# Altium footprint library BLE-Control.PcbLib: 56 footprints (part 1 of 4)
Each footprint in its own frame and in the unit in brackets; x right, y up, seen from the top. Pads: shape width x height; smd on the part's side, far side on the other; paste and mask are expansions set on the pad; w line width, h text height; cw(c..) or ccw(c..) is an arc to the next point about the centre after c.
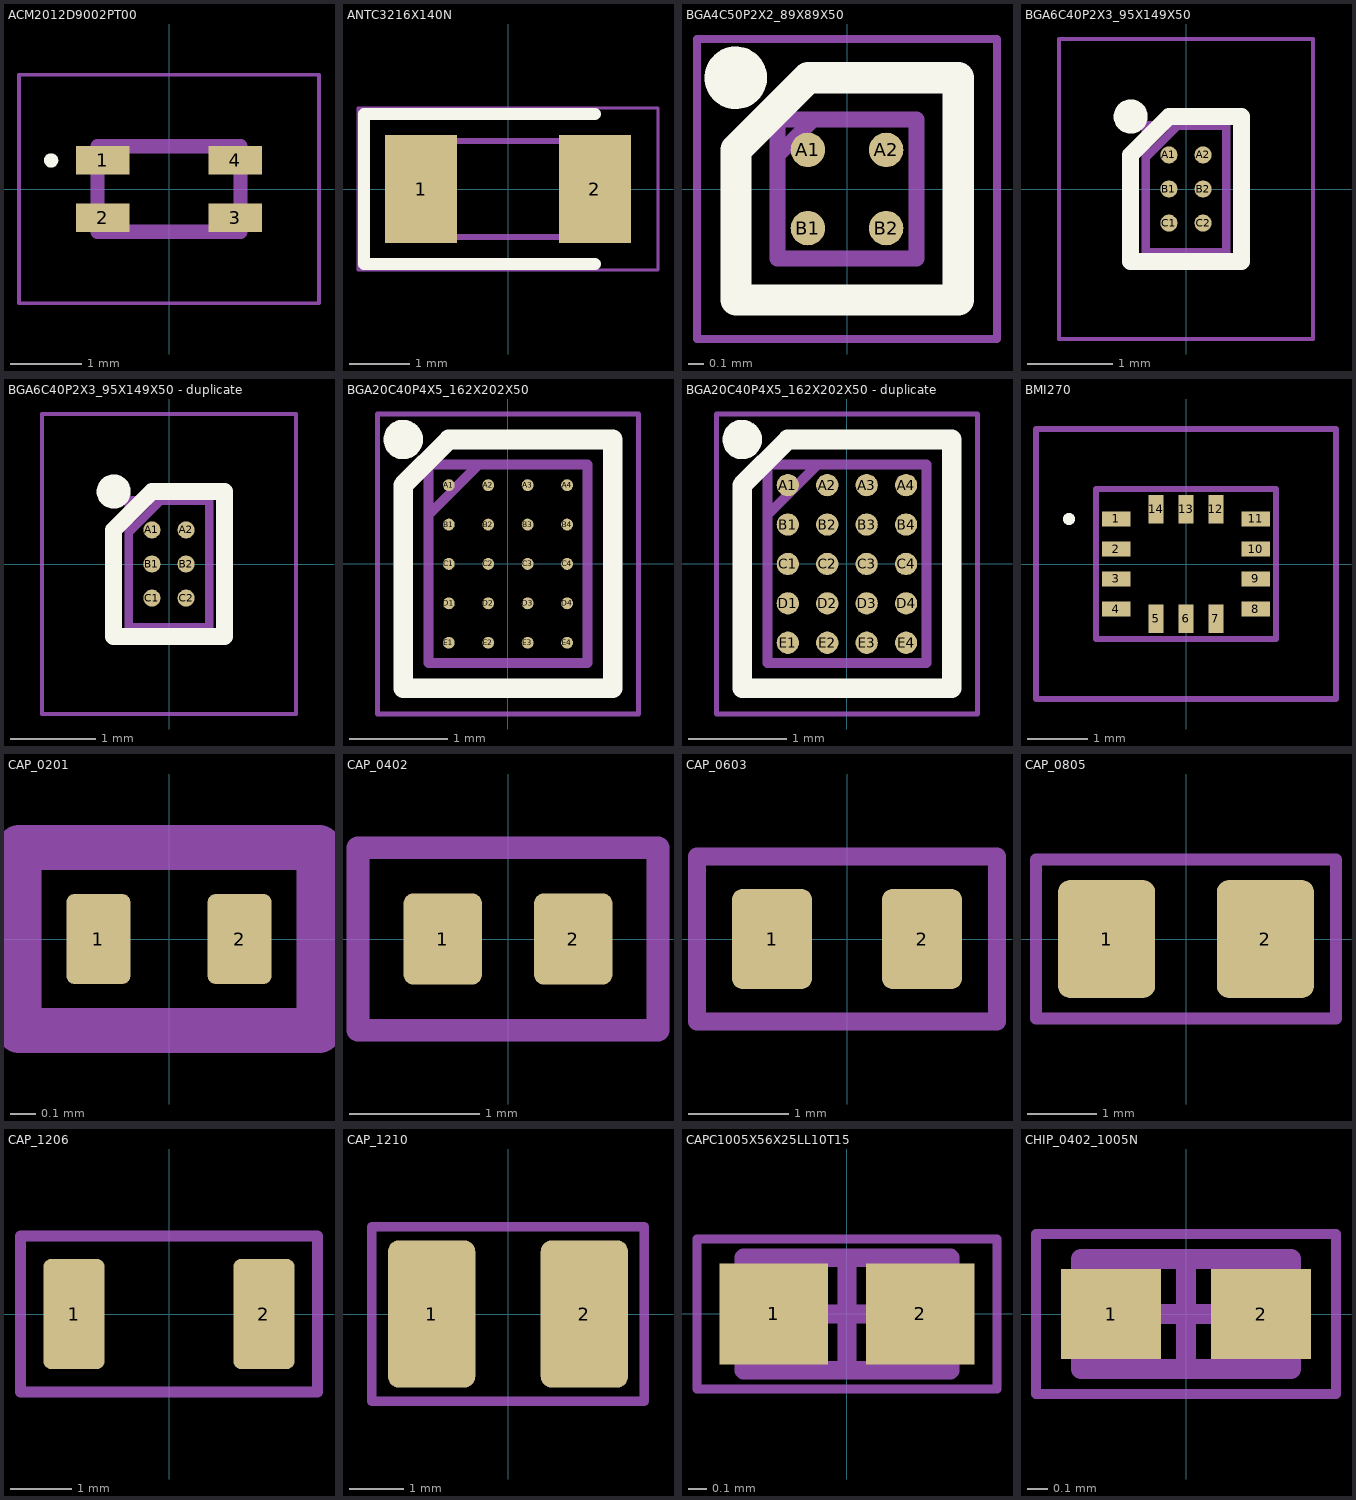
[diagram p0: the footprints below, top view; thin cyan lines are the x and y axes]

## ACM2012D9002PT00 [mm]
pads (4):
  rect 0.75x0.4 smd: 1(-0.925,0.4) 2(-0.925,-0.4) 3(0.925,-0.4) 4(0.925,0.4)
Top Overlay:
  lines w0.1: -1.7,0.4 ccw(c-1.65,0.4) -1.6,0.4 ccw(c-1.65,0.4) -1.7,0.4
Top 3D Body:
  lines w0.2: -1,-0.6 -1,0.6 1,0.6 1,-0.6 -1,-0.6
Top Courtyard:
  lines w0.05: -2.1,-1.6 -2.1,1.6 2.1,1.6 2.1,-1.6 -2.1,-1.6
3D body "ACM2012D-900-2P-T00.stp": height 1.2, standoff 0, extent -1.009,-0.602 0.991,0.598

## ANTC3216X140N [mm]
pads (2):
  rect 1.2x1.8 smd: 1(-1.45,0) 2(1.45,0)
Top Overlay:
  lines w0.2: 1.45,-1.25 -2.4,-1.25 -2.4,1.25 1.45,1.25
Top 3D Body:
  lines w0.1: -1.6,0.2 -1,0.8 ; -1.6,-0.8 -1.6,0.8 1.6,0.8 1.6,-0.8 -1.6,-0.8
Top Courtyard:
  lines w0.05: -2.5,-1.35 -2.5,1.35 2.5,1.35 2.5,-1.35 -2.5,-1.35
3D body "2450AT18A100E.stp": height 1.4, standoff 0, extent -1.6,-0.8 1.6,0.8

## BGA4C50P2X2_89X89X50 [mm]
pads (4):
  round 0.221 smd: A1(-0.25,0.25) A2(0.25,0.25) B1(-0.25,-0.25) B2(0.25,-0.25)
Top Overlay:
  circle w0.2: c-0.711,0.711 r0.1
  lines w0.2: -0.25,0.711 0.711,0.711 0.711,-0.71 -0.71,-0.71 -0.71,0.251 -0.249,0.712
Top 3D Body:
  lines w0.1: -0.444,0.214 -0.214,0.444 ; -0.444,-0.444 -0.444,0.444 0.444,0.444 0.444,-0.444 -0.444,-0.444
Top Courtyard:
  lines w0.05: -0.959,-0.959 -0.959,0.959 0.959,0.959 0.959,-0.959 -0.959,-0.959
3D body "TPS22910AYZVR.stp": height 0.5, standoff 0, extent -0.444,-0.444 0.444,0.444

## BGA6C40P2X3_95X149X50 [mm]
pads (6):
  round 0.2 smd: A1(-0.2,0.4) A2(0.2,0.4) B1(-0.2,0) B2(0.2,0) C1(-0.2,-0.4) C2(0.2,-0.4)
Top Overlay:
  circle w0.2: c-0.65,0.85 r0.1
  lines w0.2: -0.65,-0.85 0.65,-0.85 0.65,0.85 -0.2,0.85 -0.65,0.4 -0.65,-0.85
Top Courtyard:
  lines w0.1: -0.475,0.365 -0.095,0.745 ; -0.475,-0.745 0.475,-0.745 0.475,0.745 -0.475,0.745 -0.475,-0.745
Bottom Assembly:
  lines w0.05: -1.49,-1.76 1.49,-1.76 1.49,1.76 -1.49,1.76 -1.49,-1.76

## BGA6C40P2X3_95X149X50 - duplicate [mm]
pads (6):
  round 0.2 smd: A1(-0.2,0.4) A2(0.2,0.4) B1(-0.2,0) B2(0.2,0) C1(-0.2,-0.4) C2(0.2,-0.4)
Top Overlay:
  circle w0.2: c-0.65,0.85 r0.1
  lines w0.2: -0.65,-0.85 -0.65,0.4 -0.2,0.85 0.65,0.85 0.65,-0.85 -0.65,-0.85
Top Courtyard:
  lines w0.1: -0.475,0.365 -0.095,0.745 ; -0.475,-0.745 -0.475,0.745 0.475,0.745 0.475,-0.745 -0.475,-0.745
Bottom Assembly:
  lines w0.05: -1.49,-1.76 -1.49,1.76 1.49,1.76 1.49,-1.76 -1.49,-1.76

## BGA20C40P4X5_162X202X50 [mm]
pads (20):
  round 0.12 smd: A1(-0.6,0.8) A2(-0.2,0.8) A3(0.2,0.8) A4(0.6,0.8) B1(-0.6,0.4) B2(-0.2,0.4) B3(0.2,0.4) B4(0.6,0.4) C1(-0.6,0) C2(-0.2,0) C3(0.2,0) C4(0.6,0) D1(-0.6,-0.4) D2(-0.2,-0.4) D3(0.2,-0.4) D4(0.6,-0.4) E1(-0.6,-0.8) E2(-0.2,-0.8) E3(0.2,-0.8) E4(0.6,-0.8)
Top Overlay:
  circle w0.2: c-1.063,1.263 r0.1
  lines w0.2: -1.063,-1.263 1.063,-1.263 1.063,1.263 -0.6,1.263 -1.063,0.8 -1.063,-1.263
Top 3D Body:
  lines w0.1: -0.808,0.496 -0.297,1.007 ; -0.808,-1.007 0.807,-1.007 0.807,1.008 -0.808,1.008 -0.808,-1.007
Top Courtyard:
  lines w0.05: -1.322,-1.523 1.323,-1.523 1.323,1.522 -1.322,1.522 -1.322,-1.523
3D body "BQ21061YFPR.stp": height 0.5, standoff 0, extent -0.807,-1.008 0.807,1.008

## BGA20C40P4X5_162X202X50 - duplicate [mm]
pads (20):
  round 0.226 smd: A1(-0.6,0.8) A2(-0.2,0.8) A3(0.2,0.8) A4(0.6,0.8) B1(-0.6,0.4) B2(-0.2,0.4) B3(0.2,0.4) B4(0.6,0.4) C1(-0.6,0) C2(-0.2,0) C3(0.2,0) C4(0.6,0) D1(-0.6,-0.4) D2(-0.2,-0.4) D3(0.2,-0.4) D4(0.6,-0.4) E1(-0.6,-0.8) E2(-0.2,-0.8) E3(0.2,-0.8) E4(0.6,-0.8)
Top Overlay:
  circle w0.2: c-1.063,1.263 r0.1
  lines w0.2: -1.063,-1.263 1.063,-1.263 1.063,1.263 -0.6,1.263 -1.063,0.8 -1.063,-1.263
Top 3D Body:
  lines w0.1: -0.808,0.496 -0.297,1.007 ; -0.808,-1.007 0.807,-1.007 0.807,1.008 -0.808,1.008 -0.808,-1.007
Top Courtyard:
  lines w0.05: -1.322,-1.523 1.323,-1.523 1.323,1.522 -1.322,1.522 -1.322,-1.523
3D body "BQ21061YFPR.stp": height 0.5, standoff 0, extent -0.807,-1.008 0.807,1.008

## BMI270 [mm]
pads (14):
  rect 0.475x0.25 smd: 1(-1.163,0.75) 2(-1.163,0.25) 3(-1.163,-0.25) 4(-1.163,-0.75) 8(1.162,-0.75) 9(1.162,-0.25) 10(1.162,0.25) 11(1.162,0.75)
  rect 0.25x0.475 smd: 5(-0.5,-0.913) 6(0,-0.913) 7(0.5,-0.913) 12(0.5,0.913) 13(0,0.913) 14(-0.5,0.913)
Top Overlay:
  lines w0.1: -2,0.75 cw(c-1.95,0.75) -1.9,0.75 cw(c-1.95,0.75) -2,0.75
Top 3D Body:
  lines w0.1: -1.5,-1.25 -1.5,1.25 1.5,1.25 1.5,-1.25 -1.5,-1.25
Top Courtyard:
  lines w0.1: -2.5,-2.25 -2.5,2.25 2.5,2.25 2.5,-2.25 -2.5,-2.25
3D body "BMI270.stp": height 0.83, standoff 0, extent -1.5,-1.25 1.5,1.25

## CAP_0201 [mm]
pads (2):
  rrect25% 0.25x0.35 smd mask+0.05: 1(-0.275,0) 2(0.275,0)
Top 3D Body:
  lines w0.175: -0.584,-0.356 0.584,-0.356 0.584,0.356 -0.584,0.356 -0.584,-0.356
  text "'.Designator'" at -5.665,-0.417 h1
3D body "C0201.stp": height 0.34, standoff 0.01, extent -0.315,-0.166 0.315,0.164

## CAP_0402 [mm]
pads (2):
  rrect25% 0.6x0.7 smd: 1(-0.5,0) 2(0.5,0)
Top 3D Body:
  lines w0.175: -1.15,-0.7 -1.15,0.7 1.15,0.7 1.15,-0.7 -1.15,-0.7
  text "'.Designator'" at -5.665,-0.29 h1
3D body "C0402.step": height 0.37, standoff 0.01, extent -0.5,-0.265 0.5,0.265

## CAP_0603 [mm]
pads (2):
  rrect25% 0.8x1 smd: 1(-0.75,0) 2(0.75,0)
Top 3D Body:
  lines w0.175: -1.5,-0.825 1.5,-0.825 1.5,0.825 -1.5,0.825 -1.5,-0.825
  text "'.Designator'" at -5.665,-0.417 h1
3D body "C0603.step": height 0.51, standoff 0.01, extent -0.8,-0.4 0.8,0.4

## CAP_0805 [mm]
pads (2):
  rrect25% 1.4x1.7 smd: 1(-1.143,0) 2(1.143,0)
Top 3D Body:
  lines w0.175: -2.159,-1.143 2.159,-1.143 2.159,1.143 -2.159,1.143 -2.159,-1.143
  text "'.Designator'" at -5.665,-0.417 h1
3D body "C0805.stp": height 1.01, standoff 0.01, extent -1.15,-0.762 1.15,0.788

## CAP_1206 [mm]
pads (2):
  rrect25% 1x1.8 smd: 1(-1.55,0) 2(1.55,0)
Top 3D Body:
  lines w0.175: -2.425,-1.275 -2.425,1.275 2.425,1.275 2.425,-1.275 -2.425,-1.275
  text "'.Designator'" at -5.665,-0.417 h1
3D body "C1206.step": height 0.94, standoff 0, extent -1.6,-0.8 1.6,0.8

## CAP_1210 [mm]
height 1.35
pads (2):
  rrect25% 1.6x2.7 smd: 1(-1.4,0) 2(1.4,0)
Top 3D Body:
  lines w0.175: -2.5,-1.6 -2.5,1.6 2.5,1.6 2.5,-1.6 -2.5,-1.6
  text "'.Designator'" at -5.665,-0.417 h1
3D body "C1210.step": height 2.5, standoff 0, extent -1.6,-1.25 1.6,1.25

## CAPC1005X56X25LL10T15 [mm] "Chip Capacitor, 2-Leads, Body 1.00x0.50mm, IPC High Density"
height 0.56
pads (2):
  rect 0.58x0.54 smd: 1(-0.39,0) 2(0.39,0)
Top 3D Body:
  lines w0.1: -0.55,-0.3 0.55,-0.3 0.55,0.3 -0.55,0.3 -0.55,-0.3
Top Courtyard:
  lines w0.05: -0.8,-0.4 0.8,-0.4 0.8,0.4 -0.8,0.4 -0.8,-0.4
  lines w0.1: -0.3,0 0.3,0 ; 0,-0.3 0,0.3
3D body: height 0.56, standoff 0, extent 0.3,-0.3 0.55,0.3
3D body: height 0.56, standoff 0, extent -0.55,-0.3 -0.3,0.3
3D body: height 0.56, standoff 0, extent -0.3,-0.3 0.3,0.3

## CHIP_0402_1005N [mm] "CHIP_0402_1005N"
height 0.4
pads (2):
  rect 0.5x0.45 smd: 1(-0.375,0) 2(0.375,0)
Top 3D Body:
  lines w0.1: -0.525,-0.275 0.525,-0.275 0.525,0.275 -0.525,0.275 -0.525,-0.275
Top Courtyard:
  lines w0.05: -0.75,-0.4 0.75,-0.4 0.75,0.4 -0.75,0.4 -0.75,-0.4
  lines w0.1: -0.275,0 0.275,0 ; 0,-0.275 0,0.275
3D body: height 0.4, standoff 0, extent 0.275,-0.275 0.525,0.275
3D body: height 0.4, standoff 0, extent -0.525,-0.275 -0.275,0.275
3D body: height 0.4, standoff 0, extent -0.275,-0.275 0.275,0.275